# Altium footprint library Misc_connectors.PcbLib: 5 footprints
Each footprint in its own frame and in the unit in brackets; x right, y up, seen from the top. Pads: shape width x height; smd on the part's side, far side on the other; paste and mask are expansions set on the pad; w line width, h text height; cw(c..) or ccw(c..) is an arc to the next point about the centre after c.
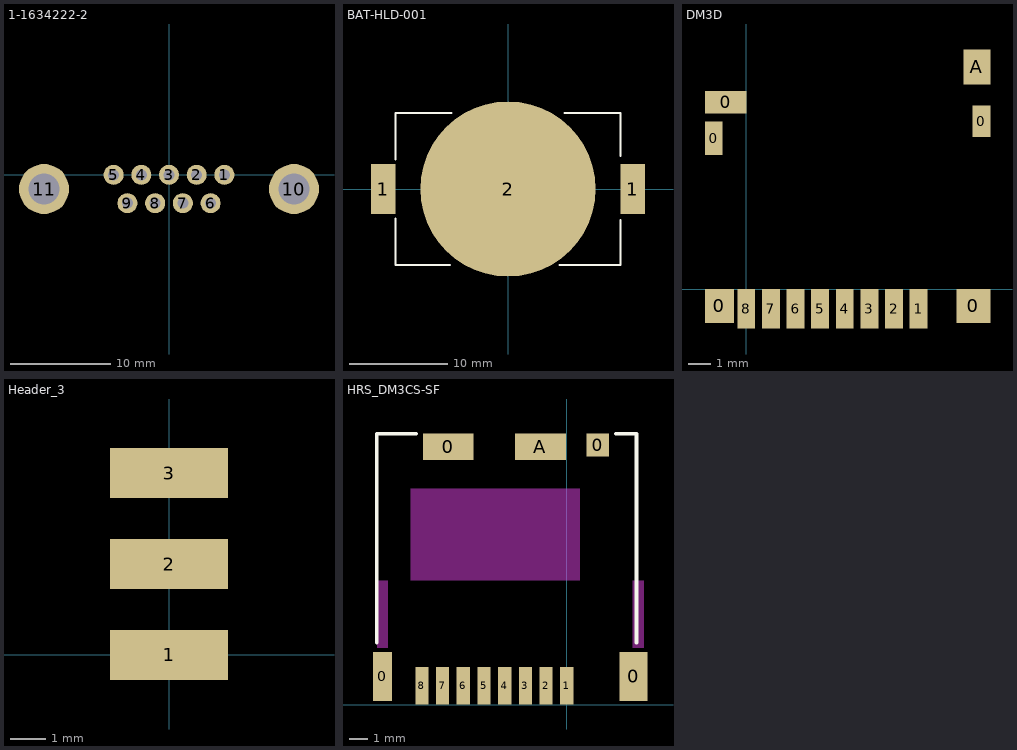
[diagram p0: the footprints below, top view; thin cyan lines are the x and y axes]

## 1-1634222-2 [mm] "D-SUB 9P with Inserts"
height 11
pads (11):
  round 2 hole 1.1 unplated: 1(5.54,0) 2(2.77,0) 3(0,0) 4(-2.77,0) 5(-5.54,0) 6(4.155,-2.84) 7(1.385,-2.84) 8(-1.385,-2.84) 9(-4.155,-2.84)
  round 5 hole 3.1 unplated: 10(12.495,-1.42) 11(-12.495,-1.42)
3D body "c-1-1634222-2-h-3d.stp": height 12.5, standoff -4.5, extent -15.4,-7.775 15.4,4.775

## BAT-HLD-001 [mm]
height 4.2
pads (3):
  rect 2.5x5.1 smd: 1(-12.7,0) 1(12.7,0)
  round 17.8 smd: 2(0,0)
Top Overlay:
  lines w0.2: -11.45,-3 -11.45,-7.75 -5.9,-7.75 ; -11.45,3 -11.45,7.75 -10.75,7.75 -5.75,7.75 ; 5.25,-7.75 11.45,-7.75 11.45,-3.15 ; 5.75,7.75 11.45,7.75 11.45,3.35

## DM3D [mm]
height 1.55
pads (14):
  rect 0.8x1.5 smd: 0(-1.45,6.75)
  rect 1.3x1.5 smd paste+0 mask+0.05: 0(-1.2,-0.75)
  rect 1.85x1 smd: 0(-0.925,8.35)
  rect 1.5x1.5 smd: 0(10.15,-0.75)
  rect 0.8x1.4 smd: 0(10.5,7.5)
  rect 0.8x1.75 smd mask+0.05: 1(7.7,-0.875) 2(6.6,-0.875) 3(5.5,-0.875) 4(4.4,-0.875) 5(3.3,-0.875) 6(2.2,-0.875) 7(1.1,-0.875) 8(0,-0.875)
  rect 1.2x1.55 smd: A(10.3,9.925)
3D body "DM3D-SF.stp": height 1.55, standoff 0, extent -1.4,-1.35 10.55,10.1

## Header_3 [mm]
pads (3):
  rect 3.3x1.4 smd: 1(0,0) 2(0,2.54) 3(0,5.08)

## HRS_DM3CS-SF [mm]
pads (13):
  rect 1x2.6 smd: 0(-9.8,1.5)
  rect 2.7x1.4 smd: 0(-6.3,13.7) A(-1.4,13.7)
  rect 1.2x1.2 smd: 0(1.65,13.8)
  rect 1.5x2.6 smd paste-25.4 mask-25.4: 0(3.55,1.5)
  rect 0.7x2 smd paste-25.4 mask-25.4: 1(0,1) 2(-1.1,1) 3(-2.2,1) 4(-3.3,1) 5(-4.4,1) 6(-5.5,1) 7(-6.6,1) 8(-7.7,1)
Top Layer keep-out:
  rectangle: 3.5,3 4.1,6.6
  rectangle: -10.1,3 -9.5,6.6
  rectangle: -8.3,6.6 0.7,11.5
Top Overlay:
  lines w0.2: -10.1,3.3 -10.1,14.4 -8,14.4 ; 2.6,14.4 3.7,14.4 3.7,3.3
Top Paste:
  region: 2.8,0.2 4.3,0.2 4.3,2.8 2.8,2.8
  region: -10.3,0.2 -9.3,0.2 -9.3,2.8 -10.3,2.8
  region: -0.35,0 0.35,0 0.35,2 -0.35,2
  region: -1.45,0 -0.75,0 -0.75,2 -1.45,2
  region: -2.55,0 -1.85,0 -1.85,2 -2.55,2
  region: -3.65,0 -2.95,0 -2.95,2 -3.65,2
  region: -4.75,0 -4.05,0 -4.05,2 -4.75,2
  region: -5.85,0 -5.15,0 -5.15,2 -5.85,2
  region: -6.95,0 -6.25,0 -6.25,2 -6.95,2
  region: -8.05,0 -7.35,0 -7.35,2 -8.05,2
Top Solder:
  region: 2.7,0.1 4.4,0.1 4.4,2.9 2.7,2.9
  region: -10.4,0.1 -9.2,0.1 -9.2,2.9 -10.4,2.9
  region: -0.45,-0.1 0.45,-0.1 0.45,2.1 -0.45,2.1
  region: -1.55,-0.1 -0.65,-0.1 -0.65,2.1 -1.55,2.1
  region: -2.65,-0.1 -1.75,-0.1 -1.75,2.1 -2.65,2.1
  region: -3.75,-0.1 -2.85,-0.1 -2.85,2.1 -3.75,2.1
  region: -4.85,-0.1 -3.95,-0.1 -3.95,2.1 -4.85,2.1
  region: -5.95,-0.1 -5.05,-0.1 -5.05,2.1 -5.95,2.1
  region: -7.05,-0.1 -6.15,-0.1 -6.15,2.1 -7.05,2.1
  region: -8.15,-0.1 -7.25,-0.1 -7.25,2.1 -8.15,2.1
3D body "DM3CS-SF.stp": height 1.98, standoff 0.05, extent -9.9,0.35 3.9,14.45